# Altium footprint library 10A 250V fuse.PcbLib: 1 footprints
Each footprint in its own frame and in the unit in brackets; x right, y up, seen from the top. Pads: shape width x height; smd on the part's side, far side on the other; paste and mask are expansions set on the pad; w line width, h text height; cw(c..) or ccw(c..) is an arc to the next point about the centre after c.
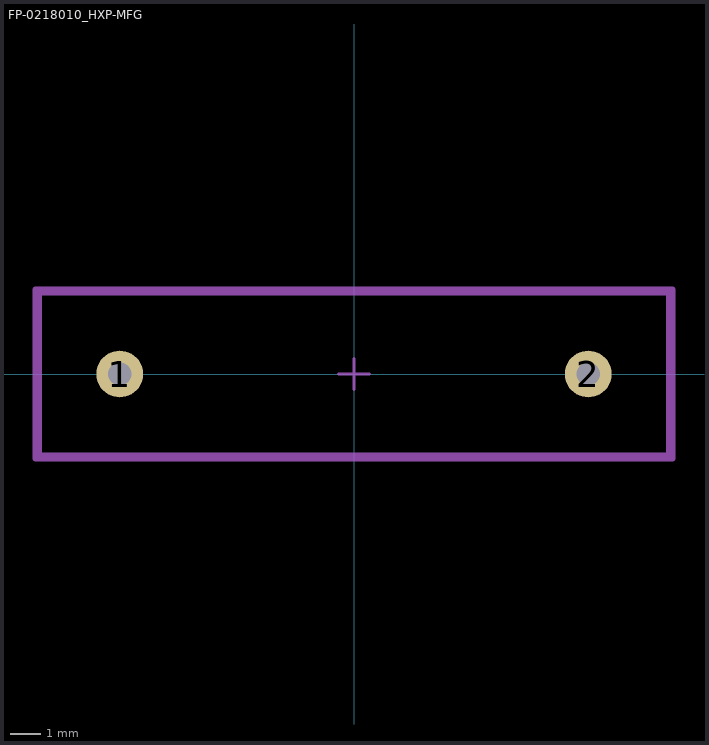
[diagram p0: the footprint, top view; thin cyan lines are the x and y axes]

## FP-0218010_HXP-MFG [mil]
pads (2):
  round 60 hole 30: 1(-300,0) 2(300,0)
Top Assembly:
  lines w7.87: -407.48,-108.27 -407.48,108.27 407.48,108.27 407.48,-108.27 -407.48,-108.27
Top 3D Body:
  lines w7.87: -403.54,-104.33 -403.54,104.33 403.54,104.33 403.54,-104.33 -403.54,-104.33
Top Courtyard:
  lines w7.87: -407.48,-108.27 -407.48,108.27 407.48,108.27 407.48,-108.27 -407.48,-108.27
Top Component Center:
  lines w3.94: -19.68,0 19.68,0 ; 0,-19.68 0,19.68
3D body "Fuse_Littelfuse_Inc_0218010_HXP_eec.STEP": height 10, standoff 0, extent -407.48,-108.27 407.48,108.27